# EAGLE library part 2007263-1 (library 2007263-1)
Configuration Features: Number of Ports 2 | Port Matrix Configuration 1 x 2 | Dimensions: PCB Thickness (Recommended) 2.25 MM | PCB Thickness (Recommended) .089 INCH | Electrical Characteristics: Data Rate (Max) 16 GBS | Housing Features: Cage Material Nickel Silver | Operation/Application: Pluggable I/O Applications SFP+ | Heat Sink Compatible No | Other: Included Lightpipe No | EMI Containment Feature Type Internal/External EMI Springs | Packaging Features: Packaging Method Box | Product Type Features: Se Source: Datasheet <https://www.te.com/commerce/DocumentDelivery/DDEController?Action=srchrtrv&DocNm=4-1773455-3_Quick_Ref_Guide_SFP+_Sol&DocType=Data Sheet&DocLang=English&PartCntxt=2007263-1&DocFormat=pdf>
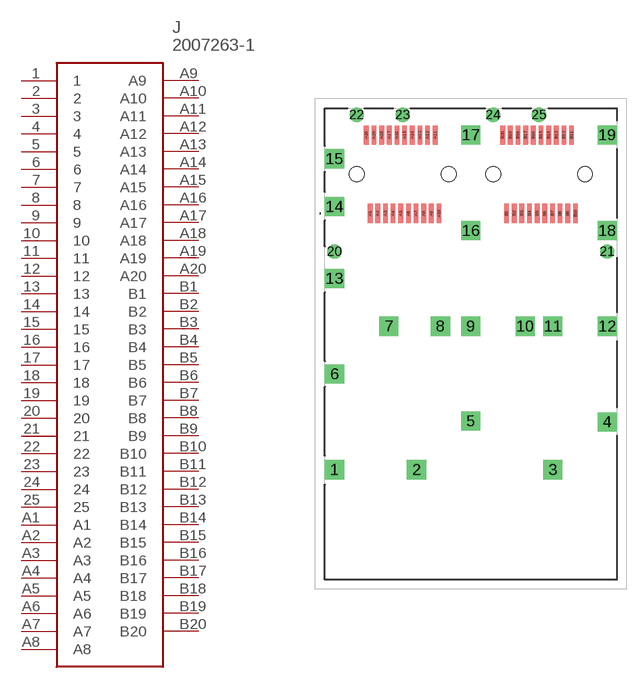
[diagram p0: symbol with the pads of 20072631; footprint 20072631]

Designator prefix J

## 2007263-1 (Arrow_Part_Number: 2007263-1; Arrow_Price-Stock: https://www.arrow.com/en/products/2007263-1/te-connectivity?region=europe; Description: Configuration Features: Number of Ports 2 | Port Matrix Configuration 1 x 2 | Dimensions: PCB Thickness (Recommended) 2.25 MM | PCB Thickness (Recommended) .089 INCH | Electrical Characteristics: Data Rate (Max) 16 GBS | Housing Features: Cage Material Nickel Silver | Operation/Application: Pluggable I/O Applications SFP+ | Heat Sink Compatible No | Other: Included Lightpipe No | EMI Containment Feature Type Internal/External EMI Springs | Packaging Features: Packaging Method Box | Product Type Features: Se; Height: 9.8mm; Manufacturer_Name: TE Connectivity; Manufacturer_Part_Number: 2007263-1; Mouser_Part_Number: 571-2007263-1; Mouser_Price-Stock: https://www.mouser.co.uk/ProductDetail/TE-Connectivity/2007263-1?qs=4zF2lffhceF8GItBX4M8mw%3D%3D)  [20072631]
1  1
2  2
3  3
4  4
5  5
6  6
7  7
8  8
9  9
10  10
11  11
12  12
13  13
14  14
15  15
16  16
17  17
18  18
19  19
20  20
21  21
22  22
23  23
24  24
25  25
A1  A1
A2  A2
A3  A3
A4  A4
A5  A5
A6  A6
A7  A7
A8  A8
A9  A9
A10  A10
A11  A11
A12  A12
A13  A13
A14  A14
A15  A15
A16  A16
A17  A17
A18  A18
A19  A19
A20  A20
B1  B1
B2  B2
B3  B3
B4  B4
B5  B5
B6  B6
B7  B7
B8  B8
B9  B9
B10  B10
B11  B11
B12  B12
B13  B13
B14  B14
B15  B15
B16  B16
B17  B17
B18  B18
B19  B19
B20  B20

## Footprint 20072631 (pad centres in mm)
2007263-1-5
drill 1.05 pad 2 square: 1 -14.25,-13.15; 2 -5.675,-13.15; 3 8.575,-13.15; 4 14.25,-8.15; 6 -14.25,-3.15; 7 -8.575,1.85; 8 -3.175,1.85; 10 5.675,1.85; 11 8.575,1.85; 12 14.25,1.85; 13 -14.25,6.85; 18 14.25,11.85; 19 14.25,21.85
drill 0.75 pad 2 square: 5 0,-8.07
drill 0.95 pad 2 square: 9 0,1.85; 14 -14.25,14.35; 15 -14.25,19.35; 16 0,11.85; 17 0,21.85
drill 0.95 pad 1.478: 20 -14.25,9.65; 21 14.25,9.65; 22 -11.925,23.95; 23 -7.125,23.95; 24 2.325,23.95; 25 7.125,23.95
smd 0.5 x 2: A1 -10.525,13.65; A2 -9.725,13.65; A3 -8.925,13.65; A4 -8.125,13.65; A5 -7.325,13.65; A6 -6.525,13.65; A7 -5.725,13.65; A8 -4.925,13.65; A9 -4.125,13.65; A10 -3.325,13.65; A11 -3.725,21.85; A12 -4.525,21.85; A13 -5.325,21.85; A14 -6.125,21.85; A15 -6.925,21.85; A16 -7.725,21.85; A17 -8.525,21.85; A18 -9.325,21.85; A19 -10.125,21.85; A20 -10.925,21.85; B1 3.725,13.65; B2 4.525,13.65; B3 5.325,13.65; B4 6.125,13.65; B5 6.925,13.65; B6 7.725,13.65; B7 8.525,13.65; B8 9.325,13.65; B9 10.125,13.65; B10 10.925,13.65; B11 10.525,21.85; B12 9.725,21.85; B13 8.925,21.85; B14 8.125,21.85; B15 7.325,21.85; B16 6.525,21.85; B17 5.725,21.85; B18 4.925,21.85; B19 4.125,21.85; B20 3.325,21.85
hole 1.55 at -11.925,17.75
hole 1.55 at -2.325,17.75
hole 1.55 at 2.325,17.75
hole 1.55 at 11.925,17.75